# Altium schematic symbol library mb1367.SCHLIB: 77 symbols
Pins are listed as number, name and electrical type; pins without a type are passive.

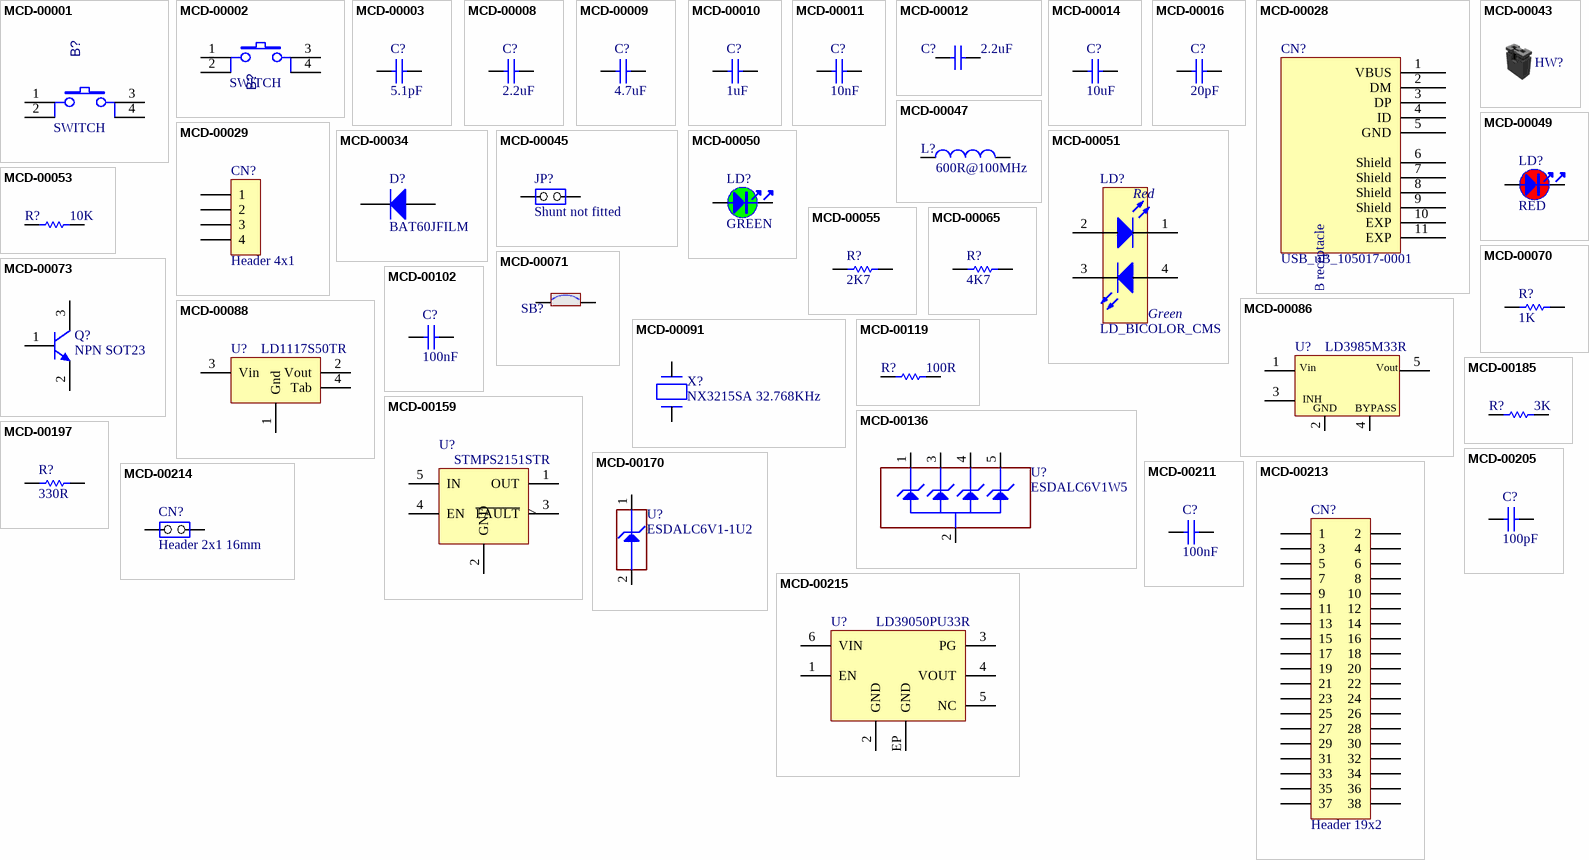
[diagram p0: symbols MCD-00001 to MCD-00215]

## MCD-00001
designator B?  value SWITCH
Non-Open Push-Button 0.1A 24V BLACK; Internal_Part_Number: MCD-00001; Manufacturer_Part_Number: TD-0341; Manufacturer: WEALTHMETAL; Part_Type: Misc; Provided_By: SUBCO; ECCN_US: n/a; ECCN_EU: n/a; ComponentLink1Description: Datasheet; Status: Released; ComponentLink1URL: http://tunmcdsvn.tun.st.com/Component_Datasheet_Library/Trunk/Misc/Wealthmetal_Tact-Switch_TD0341
footprint SWI_WEALTHMETAL_TD-0341_4P_BLACK
pins: 1, 2, 3, 4

## MCD-00002
designator B?  value SWITCH
Non-Open Push-Button 0.1A 24V; Internal_Part_Number: MCD-00002; Manufacturer_Part_Number: TD-0341; Manufacturer: WEALTHMETAL; Part_Type: Misc; Provided_By: SUBCO; ECCN_US: n/a; ECCN_EU: n/a; ComponentLink1Description: Datasheet; Status: Released; ComponentLink1URL: http://tunmcdsvn.tun.st.com/Component_Datasheet_Library/Trunk/Misc/Wealthmetal_Tact-Switch_TD0341
footprint SWI_WEALTHMETAL_TD-0341_4P_BLUE
pins: 1, 2, 3, 4

## MCD-00003
designator C?  value 5.1pF
Capacitor, MLCC, 5.1pF, 50V, NPO, +-0.25pF, 0402, T=0.5mm; Internal_Part_Number: MCD-00003; Manufacturer_Part_Number: CC0402CRNPO9BN5R1; Manufacturer: YAGEO; ECCN_US: EAR99; ECCN_EU: NEC; Provided_By: SUBCO; ComponentLink1Description: Datasheet; Status: Released; Part_Type: Capacitor; Package: C0402; ComponentLink1URL: http://tunmcdsvn.tun.st.com/Component_Datasheet_Library/Trunk/Capacitors/Yageo_Capacitor_NP0_16V-to-50V
footprint C0402
pins: 1, 2

## MCD-00008
designator C?  value 2.2uF
Capacitor, MLCC, 2.2uF, 16V, X7R, 10%, 1206, T=1,15mm; Internal_Part_Number: MCD-00008; Manufacturer_Part_Number: CC1206KKX7R7BB225; Manufacturer: YAGEO; Alternate_Manufacturer_Part_Number: C1206C225K4RAC; Alternate_Manufacturer: KEMET; Provided_By: Subcon; Initial_Board_Reference: MB1274; Status: Released; Package: C1206; ComponentLink1Description: Yageo_Capacitor_X7R-series.pdf; ECCN_US: n/a; ECCN_EU: n/a; Part_Type: Capacitor; ComponentLink1URL: http://tunmcdsvn.tun.st.com/Component_Datasheet_Library/Trunk/Capacitors/Yageo_Multilayer_Capacitor_X7R_series_100pF_to_22uF
footprint C1206_H1P15
pins: 1, 2

## MCD-00009
designator C?  value 4.7uF
Capacitor, MLCC, 4.7uF, 16V, X5R, 10%, 0603, T=0.8mm; Internal_Part_Number: MCD-00009; Manufacturer_Part_Number: CC0603KRX5R7BB475; Manufacturer: YAGEO; Provided_By: subcon; Initial_Board_Reference: MB1274; ComponentLink1Description: Yageo_Capacitor_X5R-series.pdf; ECCN_US: n/a; ECCN_EU: n/a; Status: Released; Part_Type: Capacitor; Package: C0603; ComponentLink1URL: http://tunmcdsvn.tun.st.com/Component_Datasheet_Library/Trunk/Capacitors/Yageo_Multilayer_capacitor_X5R_series_100pF_to_100uF
footprint C0603
pins: 1, 2

## MCD-00010
designator C?  value 1uF
Capacitor, MLCC, 1uF, 16V, X5R, 10%, 0603, T=0,8mm; Internal_Part_Number: MCD-00010; Manufacturer_Part_Number: CC0603KRX5R7BB105; Manufacturer: YAGEO; Provided_By: Subcon; Initial_Board_Reference: MB1274; Status: Released; Package: C0603; ComponentLink1Description: Yageo_Capacitor_X5R-series.pdf; ECCN_US: n/a; ECCN_EU: n/a; Part_Type: Capacitor; ComponentLink1URL: http://tunmcdsvn.tun.st.com/Component_Datasheet_Library/Trunk/Capacitors/Yageo_Multilayer_capacitor_X5R_series_100pF_to_100uF
footprint C0603
pins: 1, 2

## MCD-00011
designator C?  value 10nF
Capacitor, MLCC, 10nF, 16V, X7R, 10%, 0402, T=0.5mm; Internal_Part_Number: MCD-00011; Manufacturer_Part_Number: CC0402KRX7R7BB103; Manufacturer: YAGEO; Provided_By: Subcon; Initial_Board_Reference: MB1274; Status: Released; Part_Type: Capacitor; Package: C0402; ComponentLink1Description: Yageo_Capacitor_X7R-series.pdf; ECCN_US: n/a; ECCN_EU: n/a; ComponentLink1URL: http://tunmcdsvn.tun.st.com/Component_Datasheet_Library/Trunk/Capacitors/Yageo_Multilayer_Capacitor_X7R_series_100pF_to_22uF
footprint C0402
pins: 1, 2

## MCD-00012
designator C?  value 2.2uF
Capacitor, MLCC, 2.2uF, 10V, X5R, 10%, 0603, T=0,8mm; Internal_Part_Number: MCD-00012; Manufacturer_Part_Number: CC0603KRX5R6BB225; Manufacturer: YAGEO; Alternate_Manufacturer_Part_Number: C0603C225K8PACTU; Alternate_Manufacturer: KEMET; Provided_By: Subcon; Initial_Board_Reference: MB1274; Status: Released; Package: C0603; ComponentLink1Description: Yageo_Capacitor_X5R-series.pdf; ECCN_US: n/a; ECCN_EU: n/a; Part_Type: Capacitor; ComponentLink1URL: http://tunmcdsvn.tun.st.com/Component_Datasheet_Library/Trunk/Capacitors/Yageo_Multilayer_capacitor_X5R_series_100pF_to_100uF
footprint C0603
pins: 1, 2

## MCD-00014
designator C?  value 10uF
Capacitor, MLCC, 10uF, 25V, X5R, 10%, 0805, T=0,85mm; Internal_Part_Number: MCD-00014; Manufacturer_Part_Number: CC0805KRX5R8BB106; Manufacturer: YAGEO; ECCN_US: EAR99; ECCN_EU: NEC; Provided_By: SUBCO; ComponentLink1Description: Datasheet; Status: Released; Part_Type: Capacitor; Package: C0805; ComponentLink1URL: http://tunmcdsvn.tun.st.com/Component_Datasheet_Library/Trunk/Capacitors/Yageo_Multilayer_capacitor_X5R_series_100pF_to_100uF
footprint C0805
pins: 1, 2

## MCD-00016
designator C?  value 20pF
Capacitor, MLCC, 20pF, 50V, NPO, 5%, 0402, T=0,5mm; Internal_Part_Number: MCD-00016; Manufacturer_Part_Number: CC0402JRNPO9BN200; Manufacturer: YAGEO; Provided_By: Subcon; Initial_Board_Reference: MB1274; Status: Released; Package: C0402; ComponentLink1Description: Yageo_Capacitor_NP0_16V-to-50V.pdf; ECCN_US: n/a; ECCN_EU: n/a; Part_Type: Capacitor; ComponentLink1URL: http://tunmcdsvn.tun.st.com/Component_Datasheet_Library/Trunk/Capacitors/Yageo_Capacitor_NP0_16V-to-50V
footprint C0402
pins: 1, 2

## MCD-00028
designator CN?  value USB_uB_105017-0001
USB-MICRO-B, 0.65mm, RA, SMT, Bottom Mount,; Internal_Part_Number: MCD-00028; Manufacturer_Part_Number: 1050170001; Manufacturer: MOLEX; Part_Type: Connector; Provided_By: Subcon; Initial_Board_Reference: MB1274; Status: Released; ComponentLink1Description: Molex_Connector-USB-microB_105017-0001.pdf; ECCN_US: n/a; ECCN_EU: n/a; ComponentLink1URL: http://tunmcdsvn.tun.st.com/Component_Datasheet_Library/Trunk/Connectors/Molex_Connector-USB-microB_105017-0001
footprint CON_USBMICROB_MOLEX_105017-0001_H2P90
pins: 1 VBUS, 2 DM, 3 DP, 4 ID, 5 GND, 6 Shield, 7 Shield, 8 Shield, 9 Shield, 10 EXP, 11 EXP
text: USB_Micro-B receptacle

## MCD-00029
designator CN?  value Header 4x1
Header, 4x1, 2,54mm, VR, TH, Height 5.84mm/2.54mm; Internal_Part_Number: MCD-00029; Manufacturer_Part_Number: TSW-104-07-x-S; Manufacturer: SAMTEC; Part_Type: Connector; Provided_By: Subcon; Initial_Board_Reference: MB1274; Status: Released; ComponentLink1Description: Samtec_connector_TSW-HTSW-series.pdf; ECCN_US: n/a; ECCN_EU: n/a; ComponentLink1URL: http://tunmcdsvn.tun.st.com/Component_Datasheet_Library/Trunk/Connectors/Samtec_TSW-HTSW-series
footprint CON_SAMTEC_TSW-104-07-G-S
pins: 1, 2, 3, 4

## MCD-00034
designator D?  value BAT60JFILM
BAT60JFILM; Internal_Part_Number: MCD-00034; Manufacturer: STMICROELECTRONICS; Part_Type: Diode; ECCN_US: EAR99; ECCN_EU: NEC; Provided_By: Subcon; Initial_Board_Reference: MB1274; Manufacturer_Part_Number: BAT60JFILM; ComponentLink1Description: STM_Diode_BAT60JFILM-SOD323.pdf; Status: Released; ComponentLink1URL: http://tunmcdsvn.tun.st.com/Component_Datasheet_Library/Trunk/Diodes/STM_Diode_BAT60JFILM-SOD323
footprint DIO_SOD323
pins: 1 A, 2 K

## MCD-00043
designator HW?  (mechanical)
SHUNT 2.54mm BLACK; Internal_Part_Number: MCD-00043; Manufacturer_Part_Number: SNT-100-BK-G; Manufacturer: SAMTEC; Part_Type: Mechanical; Provided_By: Subcon; Initial_Board_Reference: MB1274; ECCN_US: n/a; ECCN_EU: n/a; ComponentLink1Description: Samtec_Shunt_Jumper_SNT100.pdf; Status: Released; ComponentLink1URL: http://tunmcdsvn.tun.st.com/Component_Datasheet_Library/Trunk/Connectors/Samtec_Shunt_Jumper_SNT100

## MCD-00045
designator JP?  value Shunt not fitted
Header, 2x1, 2,54mm, VR, TH, Height 5.84mm/2.54mm; Internal_Part_Number: MCD-00045; Part_Type: Connector; Manufacturer_Part_Number: TSW-102-07-x-S; Manufacturer: SAMTEC; Provided_By: Subcon; Initial_Board_Reference: MB1274; Status: Released; ComponentLink1Description: Samtec_connector_TSW-HTSW-series.pdf; ComponentLink1URL: http://tunmcdsvn.tun.st.com/Component_Datasheet_Library/Trunk/Connectors/Samtec_TSW-HTSW-series; ECCN_US: n/a; ECCN_EU: n/a
footprint CON_SAMTEC_TSW-102-07-G-S
pins: 1 COMMON, 2 NO

## MCD-00047
designator L?  value 600R@100MHz
SMD Chip ferrite bead, 600R@100MHz +/-25%, 350mA, 500mohm DC, 0603, T=0.8mm; Internal_Part_Number: MCD-00047; Part_Type: Inductor; Manufacturer_Part_Number: FCM1608KF-601T03; Manufacturer: TAI-TECH; Provided_By: SUBCO; Status: Released; ComponentLink1Description: Datasheet; ComponentLink1URL: http://tunmcdsvn.tun.st.com/Component_Datasheet_Library/Trunk/Inductors/TaiTech_Bead_FCM1608_series; ECCN_US: n/a; ECCN_EU: n/a
footprint L0603
pins: 1, 2

## MCD-00049
designator LD?  value RED
LED, Red, 0603; Internal_Part_Number: MCD-00049; Manufacturer_Part_Number: 19-213-R6C-AP1Q2B/3T; Manufacturer: EVERLIGHT; Part_Type: Display; ECCN_US: EAR99; ECCN_EU: NEC; Provided_By: Subcon; Initial_Board_Reference: MB1274; ComponentLink1Description: Everlight_SMD-LED-RED_19-213-R6C-AP1Q2B-3T-V3.doc.pdf; Status: Released; ComponentLink1URL: http://tunmcdsvn.tun.st.com/Component_Datasheet_Library/Trunk/display/Everlight_SMD-LED-RED_19-213-R6C-AP1Q2B-3T-V3.doc; Package: LED 0603
footprint LED_0603_RED
pins: 1, 2
2 alternate drawings of the same symbol

## MCD-00050
designator LD?  value GREEN
LED, Green, 0603; Internal_Part_Number: MCD-00050; Manufacturer_Part_Number: 19-213SYGC/S530-E2/TR8; Manufacturer: EVERLIGHT; Part_Type: Display; ECCN_US: EAR99; ECCN_EU: NEC; Provided_By: SUBCO; ComponentLink1Description: Datasheet; Status: Released; ComponentLink1URL: http://tunmcdsvn.tun.st.com/Component_Datasheet_Library/Trunk/Display/Everlight_SMD-LED-GREEN_19-213SYGC-S530-XX-TR8-v3.doc; Package: LED 0603
footprint LED_0603_GREEN
pins: 1, 2
2 alternate drawings of the same symbol

## MCD-00051
designator LD?  value LD_BICOLOR_CMS
LED Bicolor; Internal_Part_Number: MCD-00051; Part_Type: Display; Manufacturer_Part_Number: HSMF-A201-A00J1; Manufacturer: AVAGO TECHNOLOGIES; Alternate_Manufacturer_Part_Number: LE-RGW35280; Alternate_Manufacturer: EVERLUCK; ECCN_US: EAR99; ECCN_EU: NEC; Provided_By: Subcon; Initial_Board_Reference: MB1274; Status: Released; ComponentLink1Description: Avago_LED-SMC_HSMx-A2xx-02Feb2012.pdf; ComponentLink1URL: http://tunmcdsvn.tun.st.com/Component_Datasheet_Library/Trunk/display/Avago_LED-SMC_HSMx-A2xx-02Feb2012
footprint LED_BI-GR_HSMF-A201-A00J1
pins: 1 RED_cathode, 2 Red_anode, 3 YellowGreen_cathode, 4 YellowGreen_anode
text: Red; Green

## MCD-00053
designator R?  value 10K
Resistor,10K,0402,1%,1/16W; Internal_Part_Number: MCD-00053; Manufacturer_Part_Number: RC0402FR-0710KL; Manufacturer: YAGEO; Provided_By: subcon; Initial_Board_Reference: MB1274; Status: Released; ComponentLink1Description: Yageo_Resistor_RC0402-series.pdf; ECCN_US: n/a; ECCN_EU: n/a; Part_Type: Resistor; Package: R0402; ComponentLink1URL: http://tunmcdsvn.tun.st.com/Component_Datasheet_Library/Trunk/Resistors/Yageo_Resistor_RC0402-series
footprint R0402
pins: 1, 2

## MCD-00055
designator R?  value 2K7
Resistor,2K7,0402,1%,1/16W; Internal_Part_Number: MCD-00055; Manufacturer_Part_Number: RC0402FR-072K7L; Manufacturer: YAGEO; Provided_By: Subcon; Initial_Board_Reference: MB1274; Status: Released; ComponentLink1Description: Yageo_Resistor_RC0402-series.pdf; ECCN_US: n/a; ECCN_EU: n/a; Part_Type: Resistor; Package: R0402; ComponentLink1URL: http://tunmcdsvn.tun.st.com/Component_Datasheet_Library/Trunk/Resistors/Yageo_Resistor_RC0402-series
footprint R0402
pins: 1, 2

## MCD-00065
designator R?  value 4K7
Resistor,4K7,0402,1%,1/16W; Internal_Part_Number: MCD-00065; Manufacturer_Part_Number: RC0402FR-074K7L; Manufacturer: YAGEO; Alternate_Manufacturer_Part_Number: RT0402FRE074K7L; Provided_By: Subcon; Initial_Board_Reference: MB1274; Status: Released; ComponentLink1Description: Yageo_Resistor_RC0402-series.pdf; ECCN_US: n/a; ECCN_EU: n/a; Alternate_Manufacturer: YAGEO; Part_Type: Resistor; Package: R0402; ComponentLink1URL: http://tunmcdsvn.tun.st.com/Component_Datasheet_Library/Trunk/Resistors/Yageo_Resistor_RC0402-series
footprint R0402
pins: 1, 2

## MCD-00070
designator R?  value 1K
Resistor,1K,0603,1%,1/10W; Internal_Part_Number: MCD-00070; Manufacturer_Part_Number: RC0603FR-071KL; Manufacturer: YAGEO; Provided_By: Subcon; Initial_Board_Reference: MB1274; ComponentLink1Description: Yageo_Resistor_RC0603-series.pdf; ECCN_US: n/a; ECCN_EU: n/a; Status: Released; Part_Type: Resistor; Package: R0603; ComponentLink1URL: http://tunmcdsvn.tun.st.com/Component_Datasheet_Library/Trunk/Resistors/Yageo_Resistor_RC0603-series
footprint R0603
pins: 1, 2

## MCD-00071
designator SB?
Solder Bridge ON; Internal_Part_Number: MCD-00071; Part_Type: Mechanical; Manufacturer_Part_Number: RC0603JR-070RL; Manufacturer: YAGEO; Provided_By: SUBCO; ECCN_US: n/a; ECCN_EU: n/a; Status: Released; Package: SB0603; ComponentLink1Description: Datasheet; ComponentLink1URL: http://tunmcdsvn.tun.st.com/Component_Datasheet_Library/Trunk/Resistors/Yageo_Resistor_RC0603-series
footprint SOLDER-BRIDGE_R0603-0R
pins: 1, 2

## MCD-00073
designator Q?  value NPN SOT23
NPN Bipolar Transistor; Internal_Part_Number: MCD-00073; Part_Type: IC; Manufacturer_Part_Number: BSR14; Manufacturer: ON SEMICONDUCTOR; Alternate_Manufacturer_Part_Number: MMBT2222LT1G / MMBT2222ALT1G / MMBT2222ALT3G; ECCN_US: EAR99; ECCN_EU: NEC; Provided_By: SUBCO; Revision: *; Status: Released; ComponentLink1Description: Datasheet; ComponentLink1URL: http://tunmcdsvn.tun.st.com/Component_Datasheet_Library/Trunk/IC/NXP_Transistor_BSR14; Alternate_Manufacturer: ON SEMICONDUCTOR; Package: SOT23
footprint NPN_SOT23
pins: 1 B, 2 E, 3 C

## MCD-00086
designator U?  value LD3985M33R
Ultra low drop-low noise BiCMOS voltage, regulators low ESR capacitors compatible; Internal_Part_Number: MCD-00086; Manufacturer: STMICROELECTRONICS; Part_Type: IC; ECCN_US: EAR99; ECCN_EU: NEC; Provided_By: Subcon; Initial_Board_Reference: MB1274; Status: Released; Manufacturer_Part_Number: LD3985M33R; ComponentLink1Description: STM_LDO_LD3985.pdf; ComponentLink1URL: http://tunmcdsvn.tun.st.com/Component_Datasheet_Library/Trunk/IC/STM_LDO_LD3985
footprint REG_SOT23-5L
pins: 1 Vin, 2 GND, 3 CE, 4 BYPASS, 5 Vout
text: INH

## MCD-00088
designator U?  value LD1117S50TR
IC REG LDO 5V 0.8A SOT223; Internal_Part_Number: MCD-00088; Manufacturer: STMICROELECTRONICS; BMS_Part_Number: 9176133; ECCN_US: EAR99; ECCN_EU: NEC; Provided_By: SUBCO with ST control; Manufacturer_Part_Number: LD1117S50TR; ComponentLink1Description: Datasheet; Status: Released; Part_Type: IC; ComponentLink1URL: http://tunmcdsvn.tun.st.com/Component_Datasheet_Library/Trunk/IC/STM_LDO_LD1117; Package: SOT-223
footprint REG_SOT223-TAB
pins: 1 Gnd, 2 Vout, 3 Vin, 4 Tab

## MCD-00091
designator X?  value NX3215SA 32.768KHz
Crystal 32.768kHz, 6pF, +-20ppm, 50Kohms max, SMD; Internal_Part_Number: MCD-00091; Manufacturer_Part_Number: NX3215SA 32.768KHz EXS00A-MU00525; Manufacturer: NDK; Part_Type: Crystal_Osc; BMS_Part_Number: 9157034; ECCN_US: EAR99; ECCN_EU: NEC; Provided_By: SUBCO; ComponentLink1Description: Datasheet; Status: Released; ComponentLink1URL: http://tunmcdsvn.tun.st.com/Component_Datasheet_Library/Trunk/Crystal_Osc/NDK_Crystal-For-ST_NX3215SA 32.768KHz EXS00A-MU00525 (EXS10B-21238); Order_Code_Digikey: 644-1386
footprint CRY_NX3215SA_2P
pins: 1 X1, 2 X2

## MCD-00102
designator C?  value 100nF
Capacitor, MLCC, 100nF, 16V, X7R, 10%, 0402, T=0,5mm; Internal_Part_Number: MCD-00102; Manufacturer_Part_Number: CC0402KRX7R7BB104; Manufacturer: YAGEO; Provided_By: Subcon; Initial_Board_Reference: MB1262; Status: Released; Package: C0402; ComponentLink1Description: Yageo_Capacitor_X7R-series.pdf; ECCN_US: n/a; ECCN_EU: n/a; Part_Type: Capacitor; ComponentLink1URL: http://tunmcdsvn.tun.st.com/Component_Datasheet_Library/Trunk/Capacitors/Yageo_Multilayer_Capacitor_X7R_series_100pF_to_22uF
footprint C0402
pins: 1, 2

## MCD-00119
designator R?  value 100R
Resistor,100R,0402,1%,1/16W; Internal_Part_Number: MCD-00119; Manufacturer_Part_Number: RC0402FR-07100RL; Manufacturer: YAGEO; Provided_By: Subcon; Initial_Board_Reference: MB1262; Status: Released; Part_Type: Resistor; ComponentLink1Description: Yageo_Resistor_RC0402-series.pdf; ECCN_US: n/a; ECCN_EU: n/a; Package: R0402; ComponentLink1URL: http://tunmcdsvn.tun.st.com/Component_Datasheet_Library/Trunk/Resistors/Yageo_Resistor_RC0402-series
footprint R0402
pins: 1, 2

## MCD-00136
designator U?  value ESDALC6V1W5
Dual Transil array for ESD protection; Internal_Part_Number: MCD-00136; Part_Type: Diode; Manufacturer: STMICROELECTRONICS; ECCN_US: EAR99; ECCN_EU: NEC; Provided_By: Subcon; Initial_Board_Reference: MB1262; Status: Released; Manufacturer_Part_Number: ESDALC6V1W5; ComponentLink1Description: STM_ESD_ESDALC6V1W5.pdf; ComponentLink1URL: http://tunmcdsvn.tun.st.com/Component_Datasheet_Library/Trunk/Diodes/STM_ESD_ESDALC6V1W5
footprint ESD_SOT323-5L
pins: 1 IO1, 2 GND, 3 IO2, 4 IO3, 5 IO4

## MCD-00159
designator U?  value STMPS2151STR
500mA, Enhanced single channel power switches with active high enable pin; Internal_Part_Number: MCD-00159; Part_Type: IC; Manufacturer: STMICROELECTRONICS; Alternate_Manufacturer_Part_Number: TPS2051C; Alternate_Manufacturer: TEXAS INSTRUMENTS; ECCN_US: EAR99; ECCN_EU: NEC; Provided_By: Subcon; Initial_Board_Reference: MB1264; Status: Footprint available; Manufacturer_Part_Number: STMPS2151STR; ComponentLink1Description: STM_PWR-Switch_STMPS2151STR.pdf; ComponentLink1URL: http://tunmcdsvn.tun.st.com/Component_Datasheet_Library/Trunk/IC/STM_PWR-Switch_STMPS2151STR
footprint MOS_SOT23-5L
pins: 1 OUT, 2 GND, 3 ~{FAULT}, 4 EN, 5 IN

## MCD-00170
designator U?  value ESDALC6V1-1U2
ESD protection 6V1; Internal_Part_Number: MCD-00170; Part_Type: Diode; Manufacturer: STMICROELECTRONICS; ECCN_US: EAR99; ECCN_EU: NEC; Provided_By: Subcon; Initial_Board_Reference: MB1274; Status: Released; Manufacturer_Part_Number: ESDALC6V1-1U2; ComponentLink1Description: STM_ESD_ESDALC6V1-1U2.pdf; ComponentLink1URL: http://tunmcdsvn.tun.st.com/Component_Datasheet_Library/Trunk/Diodes/STM_ESD_ESDALC6V1-1U2
footprint ESD_ST0201
pins: 1 IO1, 2 GND

## MCD-00185
designator R?  value 3K
Resistor,3K,0402,1%,1/16W; Internal_Part_Number: MCD-00185; Manufacturer_Part_Number: RC0402FR-073KL; Manufacturer: YAGEO; Provided_By: Subcon; Status: Released; ComponentLink1Description: Yageo_Resistor_RC0402-series.pdf; ECCN_US: n/a; ECCN_EU: n/a; Part_Type: Resistor; Package: R0402; ComponentLink1URL: http://tunmcdsvn.tun.st.com/Component_Datasheet_Library/Trunk/Resistors/Yageo_Resistor_RC0402-series
footprint R0402
pins: 1, 2

## MCD-00197
designator R?  value 330R
Resistor,330R,0603,1%,1/10W; Internal_Part_Number: MCD-00197; Manufacturer_Part_Number: RC0603FR-07330RL; Manufacturer: YAGEO; Provided_By: Subcon; Status: Released; ComponentLink1Description: Yageo_Resistor_RC0603-series.pdf; ECCN_US: n/a; ECCN_EU: n/a; Part_Type: Resistor; Package: R0603; ComponentLink1URL: http://tunmcdsvn.tun.st.com/Component_Datasheet_Library/Trunk/Resistors/Yageo_Resistor_RC0603-series
footprint R0603
pins: 1, 2

## MCD-00205
designator C?  value 100pF
Capacitor, MLCC, 100pF, 50V, NPO, 5%, 0402, T=0,5mm; Internal_Part_Number: MCD-00205; Manufacturer_Part_Number: CC0402JRNPO9BN101; Manufacturer: YAGEO; Provided_By: Subcon; Status: Footprint available; Part_Type: Capacitor; Package: C0402; ComponentLink1Description: Yageo_Capacitor_NP0_16V-to-50V.pdf; ComponentLink1URL: http://tunmcdsvn.tun.st.com/Component_Datasheet_Library/Trunk/Capacitors/Yageo_Capacitor_NP0_16V-to-50V
footprint C0402
pins: 1, 2

## MCD-00211
designator C?  value 100nF
Capacitor, MLCC, 100nF, 16V, X7R, 10%, 0603, T=0,8mm; Internal_Part_Number: MCD-00211; Manufacturer_Part_Number: CC0603KRX7R7BB104; Manufacturer: YAGEO; ECCN_US: EAR99; ECCN_EU: NEC; Provided_By: SUBCO; Status: Released; Part_Type: Capacitor; Package: C0603; ComponentLink1Description: Datasheet; ComponentLink1URL: http://tunmcdsvn.tun.st.com/Component_Datasheet_Library/Trunk/Capacitors/Yageo_Multilayer_Capacitor_X7R_series_100pF_to_22uF
footprint C0603
pins: 1, 2

## MCD-00213
designator CN?  value Header 19x2
Header, 19x2, 2,54mm, VR, TH, Height 5.84mm/10.16mm; Internal_Part_Number: MCD-00213; Manufacturer_Part_Number: TSW-119-09-x-D; Manufacturer: SAMTEC; Part_Type: Connector; Provided_By: SUBCO; ECCN_US: n/a; ECCN_EU: n/a; ComponentLink1Description: Datasheet; Status: Released; ComponentLink1URL: http://tunmcdsvn.tun.st.com/Component_Datasheet_Library/Trunk/Connectors/Samtec_TSW-HTSW-series
footprint CON_SAMTEC_TSW-119-09-X-D
pins: 1, 2, 3, 4, 5, 6, 7, 8, 9, 10, 11, 12, 13, 14, 15, 16, 17, 18, 19, 20, 21, 22, 23, 24, 25, 26, 27, 28, 29, 30, 31, 32, 33, 34, 35, 36, 37, 38

## MCD-00214
designator CN?  value Header 2x1 16mm
Header, 2x1, 2,54mm, VR, TH, Height 5.84mm/10.16mm; Internal_Part_Number: MCD-00214; Part_Type: Connector; Manufacturer_Part_Number: TSW-102-09-x-S; Manufacturer: SAMTEC; Provided_By: Subcon; Initial_Board_Reference: MB1319; Status: Released; ComponentLink1Description: Samtec_connector_TSW-HTSW-series.pdf; ComponentLink1URL: http://tunmcdsvn.tun.st.com/Component_Datasheet_Library/Trunk/Connectors/Samtec_TSW-HTSW-series; ECCN_US: n/a; ECCN_EU: n/a
footprint CON_SAMTEC_TSW-102-09-X-S
pins: 1 COMMON, 2 NO

## MCD-00215
designator U?  value LD39050PU33R
Low quiescent current and low noise voltage regulators; Internal_Part_Number: MCD-00215; Manufacturer: STMICROELECTRONICS; Part_Type: IC; BMS_Part_Number: 9176126; ECCN_US: EAR99; ECCN_EU: NEC; Provided_By: SUBCO with ST control; Manufacturer_Part_Number: LD39050PU33R; Status: Released; ComponentLink1Description: Datasheet; ComponentLink1URL: http://tunmcdsvn.tun.st.com/Component_Datasheet_Library/Trunk/IC/STM_LDO_LD39050PU; Package: DFN6 3x3mm
footprint ICC_DFN6-EPAD_3X3_P095
pins: 1 EN, 2 GND, 3 PG, 4 VOUT, 5 NC, 6 VIN, EP GND

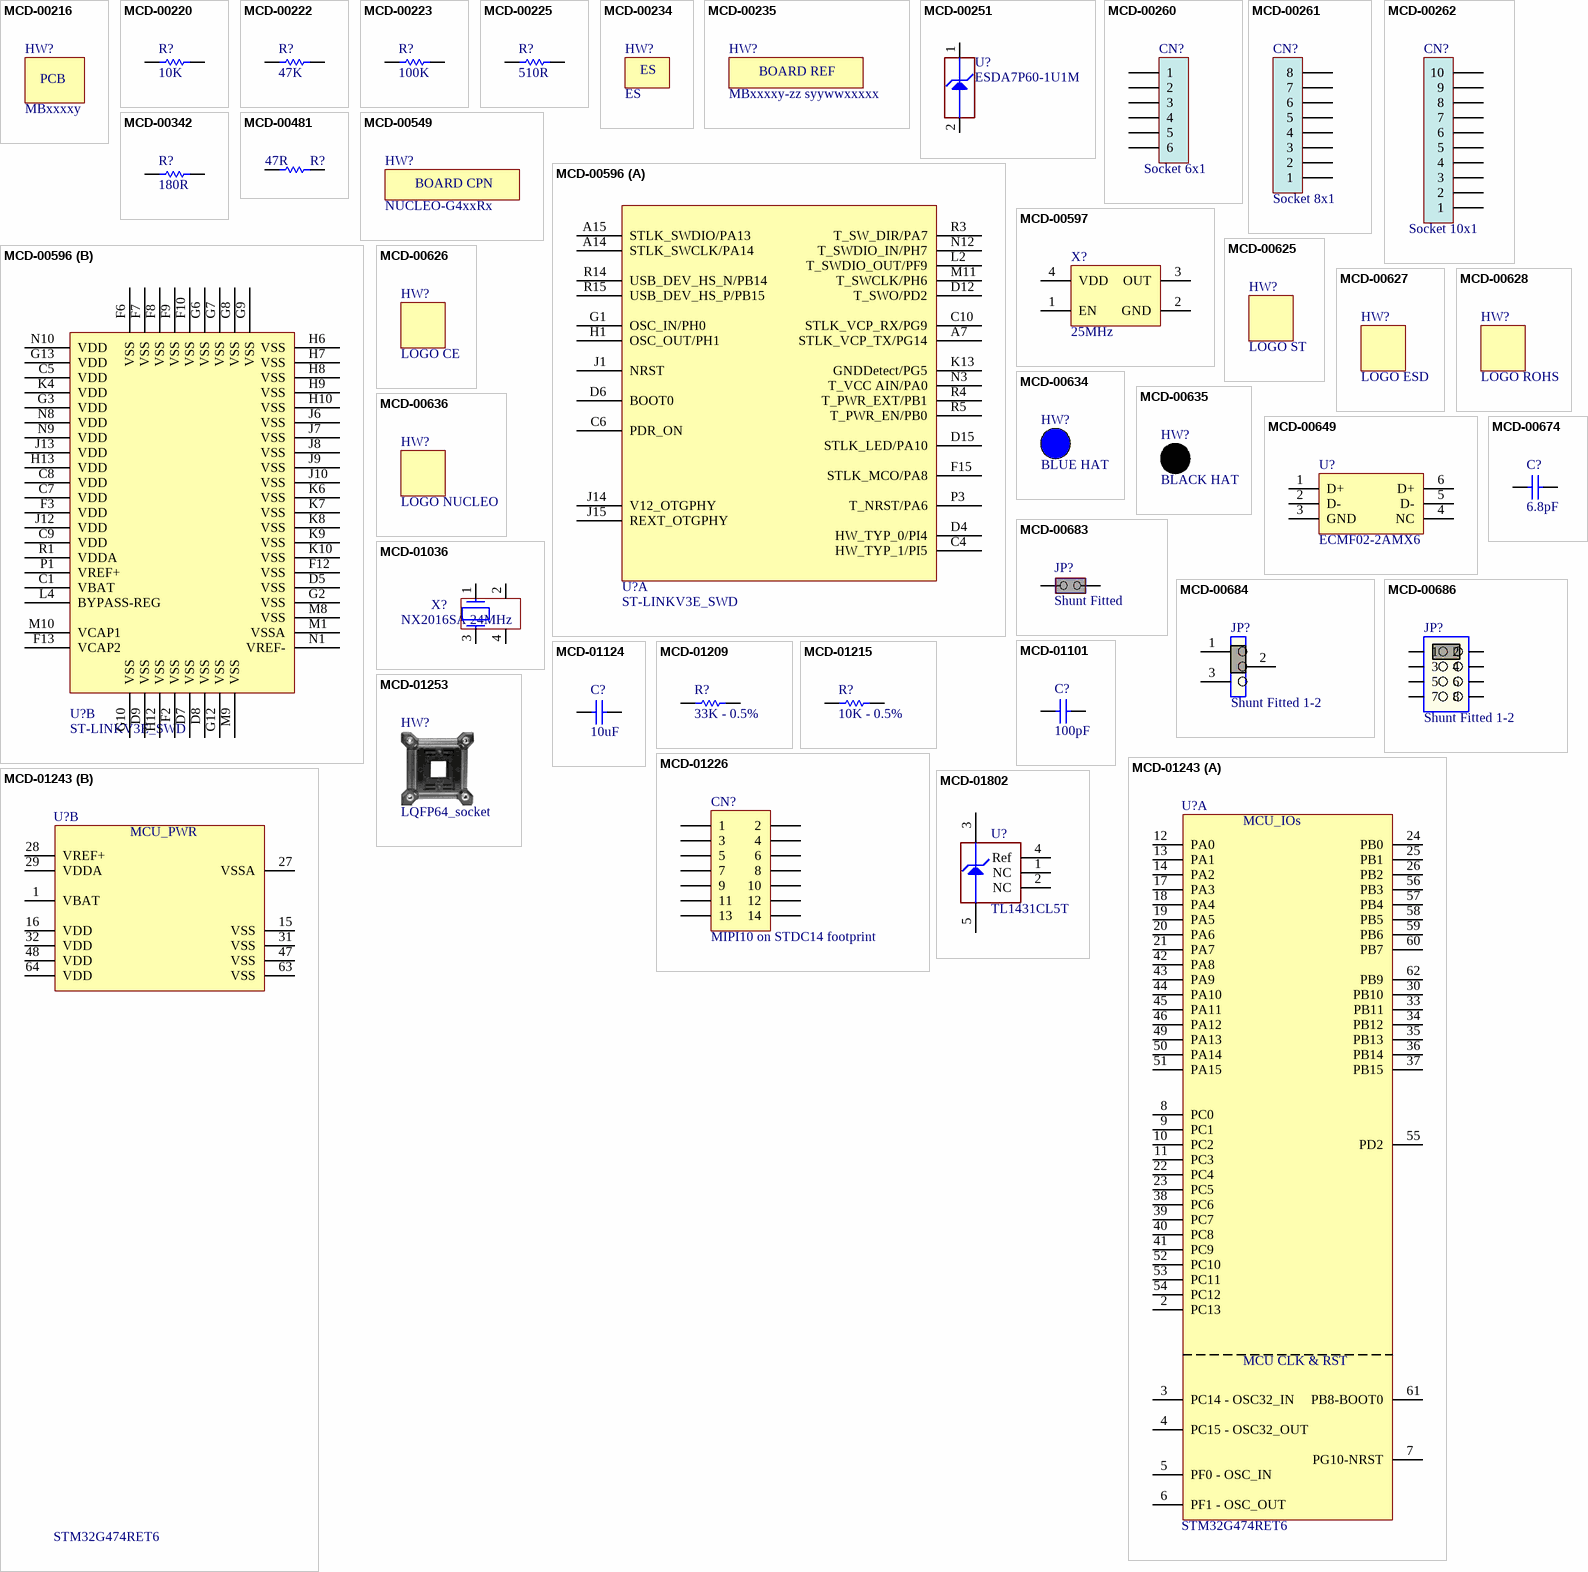
[diagram p1: symbols MCD-00216 to MCD-01802]

## MCD-00216
designator HW?  value MBxxxxy  (mechanical)
PCB, xxxx for PCB number, Y for PCB revision; Internal_Part_Number: MCD-00216; Part_Type: Mechanical; Provided_By: SUBCO; Status: Released; ECCN_US: n/a; ECCN_EU: n/a; Manufacturer_Part_Number: n/a; Manufacturer: n/a; ComponentLink1Description: Datasheet
text: PCB

## MCD-00220
designator R?  value 10K
Resistor,10K,0603,1%,1/10W; Internal_Part_Number: MCD-00220; Manufacturer_Part_Number: RC0603FR-0710KL; Manufacturer: YAGEO; Provided_By: Subcon; Initial_Board_Reference: MB1319; ECCN_US: n/a; ECCN_EU: n/a; ComponentLink1Description: Yageo_Resistor_RC0603-series.pdf; Status: Released; Part_Type: Resistor; Package: R0603; ComponentLink1URL: http://tunmcdsvn.tun.st.com/Component_Datasheet_Library/Trunk/Resistors/Yageo_Resistor_RC0603-series
footprint R0603
pins: 1, 2

## MCD-00222
designator R?  value 47K
Resistor,47K,0603,1%,1/10W; Internal_Part_Number: MCD-00222; Manufacturer_Part_Number: RC0603FR-0747KL; Manufacturer: YAGEO; ECCN_US: EAR99; ECCN_EU: NEC; Provided_By: SUBCO; Status: Released; Part_Type: Resistor; ComponentLink1Description: Datasheet; Package: R0603; ComponentLink1URL: http://tunmcdsvn.tun.st.com/Component_Datasheet_Library/Trunk/Resistors/Yageo_Resistor_RC0603-series
footprint R0603
pins: 1, 2

## MCD-00223
designator R?  value 100K
Resistor,100K,0603,1%,1/10W; Internal_Part_Number: MCD-00223; Manufacturer_Part_Number: RC0603FR-07100KL; Manufacturer: YAGEO; Provided_By: Subcon; Initial_Board_Reference: MB1319; ECCN_US: n/a; ECCN_EU: n/a; ComponentLink1Description: Yageo_Resistor_RC0603-series.pdf; Status: Released; Part_Type: Resistor; Package: R0603; ComponentLink1URL: http://tunmcdsvn.tun.st.com/Component_Datasheet_Library/Trunk/Resistors/Yageo_Resistor_RC0603-series
footprint R0603
pins: 1, 2

## MCD-00225
designator R?  value 510R
Resistor,510R,0603,1%,1/10W; Internal_Part_Number: MCD-00225; Manufacturer_Part_Number: RC0603FR-07510RL; Manufacturer: YAGEO; ECCN_US: EAR99; ECCN_EU: NEC; Provided_By: SUBCO; ComponentLink1Description: Datasheet; Status: Released; Part_Type: Resistor; Package: R0603; ComponentLink1URL: http://tunmcdsvn.tun.st.com/Component_Datasheet_Library/Trunk/Resistors/Yageo_Resistor_RC0603-series
footprint R0603
pins: 1, 2

## MCD-00234
designator HW?  value ES  (mechanical)
Sticker to mention ES sample; Internal_Part_Number: MCD-00234; Part_Type: Mechanical; Provided_By: SUBCO; Status: Released; ECCN_US: n/a; ECCN_EU: n/a; Manufacturer_Part_Number: n/a; Manufacturer: n/a; ComponentLink1Description: Datasheet

## MCD-00235
designator HW?  value MBxxxxy-zz syywwxxxxx  (mechanical)
Sticker to mention board reference + serial number; Internal_Part_Number: MCD-00235; Part_Type: Mechanical; Provided_By: SUBCO; ECCN_US: n/a; ECCN_EU: n/a; Status: Released; Manufacturer_Part_Number: n/a; Manufacturer: n/a; ComponentLink1Description: Datasheet; ComponentLink1URL: n/a
footprint STICKER_25X9
text: BOARD REF

## MCD-00251
designator U?  value ESDA7P60-1U1M
High power transient voltage suppressor, 7V breakdown; Internal_Part_Number: MCD-00251; Part_Type: IC; Manufacturer: STMICROELECTRONICS; ECCN_US: EAR99; ECCN_EU: NEC; Provided_By: Subcon; Initial_Board_Reference: MB1311; Status: Released; Manufacturer_Part_Number: ESDA7P60-1U1M; ComponentLink1Description: STM_ESD_ESDA7P60-1U1M.pdf; ComponentLink1URL: http://tunmcdsvn.tun.st.com/Component_Datasheet_Library/Trunk/Diodes/STM_ESD_ESDA7P60-1U1M
footprint ESD_QFN2_1P6X1_P125
pins: 1 IO1, 2 GND

## MCD-00260
designator CN?  value Socket 6x1
Socket, 6x1, 2.54mm, VR, TH, Height 8.51mm/10mm; Internal_Part_Number: MCD-00260; Manufacturer_Part_Number: SSW-106-03-x-S; Manufacturer: SAMTEC; Part_Type: Connector; Provided_By: SUBCO; ECCN_US: n/a; ECCN_EU: n/a; ComponentLink1Description: Datasheet; Status: Released; ComponentLink1URL: http://tunmcdsvn.tun.st.com/Component_Datasheet_Library/Trunk/Connectors/Samtec_SSW-SSQ-series
footprint CON_SAMTEC_SSW-106-03-X-S
pins: 1, 2, 3, 4, 5, 6

## MCD-00261
designator CN?  value Socket 8x1
Socket, 8x1, 2.54mm, VR, TH, Height 8.51mm/10mm; Internal_Part_Number: MCD-00261; Manufacturer_Part_Number: SSW-108-03-x-S; Manufacturer: SAMTEC; Part_Type: Connector; Provided_By: SUBCO; ECCN_US: n/a; ECCN_EU: n/a; ComponentLink1Description: Datasheet; Status: Released; ComponentLink1URL: http://tunmcdsvn.tun.st.com/Component_Datasheet_Library/Trunk/Connectors/Samtec_SSW-SSQ-series
footprint CON_SAMTEC_SSW-108-03-X-S
pins: 1, 2, 3, 4, 5, 6, 7, 8

## MCD-00262
designator CN?  value Socket 10x1
Socket, 10x1, 2.54mm, VR, TH, Height 8.51mm/10mm; Internal_Part_Number: MCD-00262; Manufacturer_Part_Number: SSW-110-03-x-S; Manufacturer: SAMTEC; Part_Type: Connector; Provided_By: SUBCO; ECCN_US: n/a; ECCN_EU: n/a; ComponentLink1Description: Datasheet; Status: Released; ComponentLink1URL: http://tunmcdsvn.tun.st.com/Component_Datasheet_Library/Trunk/Connectors/Samtec_SSW-SSQ-series
footprint CON_SAMTEC_SSW-110-03-X-S
pins: 1, 2, 3, 4, 5, 6, 7, 8, 9, 10

## MCD-00342
designator R?  value 180R
Resistor,180R,0603,1%,1/10W; Internal_Part_Number: MCD-00342; Manufacturer_Part_Number: RC0603FR-07180RL; Manufacturer: YAGEO; ECCN_US: EAR99; ECCN_EU: NEC; Provided_By: SUBCO; Status: Released; Part_Type: Resistor; Package: R0603; ComponentLink1Description: Datasheet; ComponentLink1URL: http://tunmcdsvn.tun.st.com/Component_Datasheet_Library/Trunk/Resistors/Yageo_Resistor_RC0603-series
footprint R0603
pins: 1, 2

## MCD-00481
designator R?  value 47R
Resistor,47R,0402,1%,1/16W; Internal_Part_Number: MCD-00481; Manufacturer_Part_Number: RC0402FR-0747RL; Manufacturer: YAGEO; Provided_By: SUBCO; ECCN_US: EAR99; ECCN_EU: NEC; Status: Released; Part_Type: Resistor; Package: R0402; ComponentLink1Description: Datasheet; ComponentLink1URL: http://tunmcdsvn.tun.st.com/Component_Datasheet_Library/Trunk/Resistors/Yageo_Resistor_RC0402-series
footprint R0402
pins: 1, 2

## MCD-00549
designator HW?  value NUCLEO-G4xxRx  (mechanical)
Product sticker to mention product CPN + product FG; Internal_Part_Number: MCD-00549; Part_Type: Mechanical; Provided_By: Subcon; Initial_Board_Reference: MB1319; ECCN_US: n/a; ECCN_EU: n/a; Status: Released
text: BOARD CPN

## MCD-00596
designator U?  value ST-LINKV3E_SWD
STM32F723IEK  (STM32F7) BGA176; Internal_Part_Number: MCD-00596; Part_Type: IC; Manufacturer_Part_Number: STM32F723IEK6; Manufacturer: STMICROELECTRONICS; BMS_Part_Number: 9175300; Provided_By: SUBCO with ST control; ECCN_US: 3A991A2; ECCN_EU: NEC; Status: Released; ComponentLink1Description: Datasheet; ComponentLink1URL: http://tunmcdsvn.tun.st.com/Component_Datasheet_Library/Trunk/IC/BGA176+25L_10x10x0.6_pitch0.65
footprint ICC_UFBGA201_176+25_10X10_P065
part A pins: A7 STLK_VCP_TX/PG14, A14 STLK_SWCLK/PA14, A15 STLK_SWDIO/PA13, C4 HW_TYP_1/PI5, C6 PDR_ON, C10 STLK_VCP_RX/PG9, D4 HW_TYP_0/PI4, D6 BOOT0, D12 T_SWO/PD2, D15 STLK_LED/PA10, F15 STLK_MCO/PA8, G1 OSC_IN/PH0, H1 OSC_OUT/PH1, J1 NRST, J14 V12_OTGPHY, J15 REXT_OTGPHY, K13 GNDDetect/PG5, L2 T_SWDIO_OUT/PF9, M11 T_SWCLK/PH6, N3 T_VCC AIN/PA0, N12 T_SWDIO_IN/PH7, P3 T_NRST/PA6, R3 T_SW_DIR/PA7, R4 T_PWR_EXT/PB1, R5 T_PWR_EN/PB0, R14 USB_DEV_HS_N/PB14, R15 USB_DEV_HS_P/PB15
part B pins: C1 VBAT, C5 VDD, C7 VDD, C8 VDD, C9 VDD, D5 VSS, D7 VSS, D8 VSS, D9 VSS, F2 VSS, F3 VDD, F6 VSS, F7 VSS, F8 VSS, F9 VSS, F10 VSS, F12 VSS, F13 VCAP2, G2 VSS, G3 VDD, G6 VSS, G7 VSS, G8 VSS, G9 VSS, G10 VSS, G12 VSS, G13 VDD, H6 VSS, H7 VSS, H8 VSS, H9 VSS, H10 VSS, H12 VSS, H13 VDD, J6 VSS, J7 VSS, J8 VSS, J9 VSS, J10 VSS, J12 VDD, J13 VDD, K4 VDD, K6 VSS, K7 VSS, K8 VSS, K9 VSS, K10 VSS, L4 BYPASS-REG, M1 VSSA, M8 VSS, M9 VSS, M10 VCAP1, N1 VREF-, N8 VDD, N9 VDD, N10 VDD, P1 VREF+, R1 VDDA

## MCD-00597
designator X?  value 25MHz
Oscillator 25.00Mhz, -+50PPM, 3.3V, Temp -55 to +125°C; Internal_Part_Number: MCD-00597; Manufacturer_Part_Number: NZ2520SB 25MHz END4869B; Manufacturer: NDK; Alternate_Manufacturer_Part_Number: KC2520B25.0000C10E00; Alternate_Manufacturer: AVX CORP/KYOCERA CORP; Part_Type: Crystal_Osc; Provided_By: STM; Initial_Board_Reference: MB1331; Status: Footprint available; ComponentLink1Description: NDK_OSCILLATOR_NZ2520SB.pdf; ComponentLink1URL: http://tunmcdsvn.tun.st.com/Component_Datasheet_Library/Trunk/Crystal_Osc/NDK_OSCILLATOR_NZ2520SB; Order_Code_Digikey: 478-4780-1-ND; ECCN_US: n/a; ECCN_EU: n/a
footprint OSC_NDK_NZ2520SB_4P
pins: 1 EN, 2 GND, 3 OUT, 4 VDD

## MCD-00625
designator HW?  value LOGO ST  (no BOM)
STMicroelectronics logo footprint for PCB; Internal_Part_Number: MCD-00625; Part_Type: Mechanical; Manufacturer_Part_Number: NONE; Status: Obsolete; ECCN_US: n/a; ECCN_EU: n/a; Provided_By: n/a; Manufacturer: NONE; ComponentLink1Description: Datasheet; ComponentLink1URL: http://na
footprint LOGO_ST

## MCD-00626
designator HW?  value LOGO CE  (no BOM)
CE logo footprint for PCB; Internal_Part_Number: MCD-00626; Part_Type: Mechanical; Manufacturer_Part_Number: NONE; Status: Obsolete; ECCN_US: n/a; ECCN_EU: n/a; Provided_By: n/a; Manufacturer: NONE; ComponentLink1Description: Datasheet
footprint LOGO_CE

## MCD-00627
designator HW?  value LOGO ESD  (no BOM)
Hand ESD logo footprint for PCB; Internal_Part_Number: MCD-00627; Part_Type: Mechanical; Manufacturer_Part_Number: NONE; Status: Obsolete; ECCN_US: n/a; ECCN_EU: n/a; Provided_By: n/a; Manufacturer: NONE; ComponentLink1Description: Datasheet; ComponentLink1URL: http://na
footprint LOGO_MAIN_1

## MCD-00628
designator HW?  value LOGO ROHS  (no BOM)
ROHS logo footprint for PCB; Internal_Part_Number: MCD-00628; Part_Type: Mechanical; Manufacturer_Part_Number: NONE; Status: Obsolete; ECCN_US: n/a; ECCN_EU: n/a; Provided_By: n/a; Manufacturer: NONE; ComponentLink1Description: Datasheet
footprint LOGO_ROHS

## MCD-00634
designator HW?  value BLUE HAT  (mechanical)
Blue Hat for switch TD0341X-G01-BLU; Internal_Part_Number: MCD-00634; Part_Type: Mechanical; Manufacturer_Part_Number: 988.16.09.3.00002_SH-517; Manufacturer: JIUBABA; Provided_By: SUBCO; Status: Released; ECCN_US: n/a; ECCN_EU: n/a; ComponentLink1Description: Datasheet; ComponentLink1URL: http://tunmcdsvn.tun.st.com/Component_Datasheet_Library/Trunk/Mechanical/Jiubaba_HAT_SH-517

## MCD-00635
designator HW?  value BLACK HAT  (mechanical)
Black Hat for switch TD0341X-G01-BLA; Internal_Part_Number: MCD-00635; Part_Type: Mechanical; Manufacturer_Part_Number: 988.16.09.3.00003_SH-517; Manufacturer: JIUBABA; Provided_By: SUBCO; Status: Released; ECCN_US: n/a; ECCN_EU: n/a; ComponentLink1Description: Datasheet; ComponentLink1URL: http://tunmcdsvn.tun.st.com/Component_Datasheet_Library/Trunk/Mechanical/Jiubaba_HAT_SH-517

## MCD-00636
designator HW?  value LOGO NUCLEO  (no BOM)
NUCLEO logo footprint for PCB; Internal_Part_Number: MCD-00636; Part_Type: Mechanical; Manufacturer_Part_Number: NONE; Status: Obsolete; ECCN_US: n/a; ECCN_EU: n/a; Provided_By: n/a; Manufacturer: NONE; ComponentLink1Description: Datasheet
footprint LOGO_NUCLEO

## MCD-00649
designator U?, comment value ECMF02-2AMX6  (hidden comment: ​)
Common mode filter with ESD protection for USB 2.0 interface; Internal_Part_Number: MCD-00649; Part_Type: Diode; Manufacturer: STMICROELECTRONICS; ECCN_US: EAR99; ECCN_EU: NEC; Provided_By: Subcon; Initial_Board_Reference: MB1248; Status: Footprint available; Manufacturer_Part_Number: ECMF02-2AMX6; ComponentLink1Description: STM_ESD_ECMF02-2AMX6.pdf; ComponentLink1URL: http://tunmcdsvn.tun.st.com/Component_Datasheet_Library/Trunk/Diodes/STM_ESD_ECMF02-2AMX6
footprint ESD_QFN-6L_1P7X1P5_P050
pins: 1 D+, 2 D-, 3 GND, 4 NC, 5 D-, 6 D+

## MCD-00674
designator C?  value 6.8pF
Capacitor, MLCC, 6.8pF, 50V, NPO, +-0.25pF, 0402, T=0.5mm; Internal_Part_Number: MCD-00674; Manufacturer_Part_Number: CC0402CRNPO9BN6R8; Manufacturer: YAGEO; Provided_By: SUBCO; Status: Released; Part_Type: Capacitor; Package: C0402; ComponentLink1Description: Datasheet; ComponentLink1URL: http://tunmcdsvn.tun.st.com/Component_Datasheet_Library/Trunk/Capacitors/Yageo_Capacitor_NP0_16V-to-50V; ECCN_US: N/A; ECCN_EU: N/A
footprint C0402
pins: 1, 2

## MCD-00683
designator JP?, comment Shunt Fitted
Header, 2x1, 2,54mm, VR, TH, Height 5.84mm/2.54mm - Shunt Fitted by default; Internal_Part_Number: MCD-00683; Part_Type: Connector; Manufacturer_Part_Number: TSW-102-07-x-S; Manufacturer: SAMTEC; Provided_By: Subcon; Initial_Board_Reference: MB1331; Value: Shunt Fitted; Status: Released; ComponentLink1Description: Samtec_connector_TSW-HTSW-series.pdf; ComponentLink1URL: http://tunmcdsvn.tun.st.com/Component_Datasheet_Library/Trunk/Connectors/Samtec_TSW-HTSW-series; ECCN_US: n/a; ECCN_EU: n/a
footprint CON_SAMTEC_TSW-102-07-G-S
pins: 1 COMMON, 2 NO

## MCD-00684
designator JP?  value Shunt Fitted 1-2
Header, 3x1, 2,54mm, VR, TH, Height 5.84mm/2.54mm - Shunt Fitted 1-2 by default; Internal_Part_Number: MCD-00684; Part_Type: Connector; Manufacturer_Part_Number: TSW-103-07-F-S; Manufacturer: SAMTEC; Provided_By: SUBCO; Status: Released; ComponentLink1Description: Datasheet; ComponentLink1URL: http://tunmcdsvn.tun.st.com/Component_Datasheet_Library/Trunk/Connectors/Samtec_TSW-HTSW-series; ECCN_US: n/a; ECCN_EU: n/a
footprint CON_SAMTEC_TSW-103-07-F-S
pins: 1, 2, 3

## MCD-00686
designator JP?  value Shunt Fitted 1-2
Header, 4x2, 2,54mm, VR, TH, Height 5.84mm/2.54mm - Shunt Fitted 1-2; Internal_Part_Number: MCD-00686; Part_Type: Connector; Manufacturer_Part_Number: TSW-104-07-x-D; Manufacturer: SAMTEC; Provided_By: SUBCO; Status: Released; ComponentLink1Description: Datasheet; ComponentLink1URL: http://tunmcdsvn.tun.st.com/Component_Datasheet_Library/Trunk/Connectors/Samtec_TSW-HTSW-series; ECCN_US: n/a; ECCN_EU: n/a
footprint CON_SAMTEC_TSW-104-07-X-D
pins: 1, 2, 3, 4, 5, 6, 7, 8

## MCD-01036
designator X?  value NX2016SA 24MHz
Crystal 24MHz, 6pF, +-20ppm, 80ohms max, SMD; Internal_Part_Number: MCD-01036; Part_Type: Crystal_Osc; Manufacturer_Part_Number: NX2016SA 24MHz EXS00A-CS10820; Manufacturer: NDK; BMS_Part_Number: 9157045; ECCN_US: EAR99; ECCN_EU: NEC; Provided_By: SUBCO; Status: Released; Package: (2016) 2.0 x 1.6 x 0.45 mm; ComponentLink1Description: Datasheet; ComponentLink1URL: http://tunmcdsvn.tun.st.com/Component_Datasheet_Library/Trunk/Crystal_Osc/NDK_NX2016SA 24MHz EXS00A-CS10820 (EXS10B-27366B); Order_Code_Digikey: 644-1365
footprint CRY_NX2016SA_4P
pins: 1, 2, 3, 4

## MCD-01101
designator C?  value 100pF
Capacitor,100pF,50V,X7R,10%,0603; Internal_Part_Number: MCD-01101; Manufacturer_Part_Number: 06035C101JAT4A; Manufacturer: AVX; ECCN_US: EAR99; ECCN_EU: NEC; Provided_By: SUBCO; Status: Checked; Part_Type: Capacitor; Package: C0603; ComponentLink1Description: Datasheet; ComponentLink1URL: http://tunmcdsvn.tun.st.com/Component_Datasheet_Library/Trunk/Capacitors/AVX_Capacitor_X7R-series/AVX_X7R-series.pdf; Alternate_Manufacturer_Part_Number: N/A; Alternate_Manufacturer: N/A; Order_Code_Digikey: 06035C101JAT4A-ND; Order_Code_Farnell: N/A; Order_Code_RS: N/A; BMS_Part_Number: N/A
footprint C0603
pins: 1, 2

## MCD-01124
designator C?  value 10uF
Capacitor, MLCC, 10uF, 10V, X5R, 10%, 0603, T=0.8mm; Internal_Part_Number: MCD-01124; Manufacturer_Part_Number: GRM188R61A106KAAL; Manufacturer: MURATA; ECCN_US: EAR99; ECCN_EU: NEC; Provided_By: SUBCO; Status: Released; Part_Type: Capacitor; Package: C0603; ComponentLink1Description: Datasheet; ComponentLink1URL: http://tunmcdsvn.tun.st.com/Component_Datasheet_Library/Trunk/Capacitors/Murata_Capacitor_GR_series
footprint C0603
pins: 1, 2

## MCD-01209
designator R?  value 33K - 0.5%
Resistor,33K,0603,0.5%,1/10W; Internal_Part_Number: MCD-01209; Manufacturer_Part_Number: RC0603DR-0733KL; Manufacturer: YAGEO; ECCN_US: EAR99; ECCN_EU: NEC; Provided_By: SUBCO; Status: Checked; Part_Type: Resistor; Package: R0603; ComponentLink1Description: Datasheet; ComponentLink1URL: http://tunmcdsvn.tun.st.com/Component_Datasheet_Library/Trunk/Resistors/Yageo_Resistor_RC0603-series/RC_Group_51_RoHS_L_7.pdf
footprint R0603
pins: 1, 2

## MCD-01215
designator R?  value 10K - 0.5%
resistor, 10K, 0603, 0.5%, 1/10W; Internal_Part_Number: MCD-01215; Manufacturer_Part_Number: RC0603DR-0710KL; Manufacturer: YAGEO; ECCN_US: EAR99; ECCN_EU: NEC; Provided_By: SUBCO; Status: Checked; Part_Type: Resistor; Package: R0603; ComponentLink1Description: Datasheet; ComponentLink1URL: http://tunmcdsvn.tun.st.com/Component_Datasheet_Library/Trunk/Resistors/Yageo_Resistor_RC0603-series/RC_Group_51_RoHS_L_7.pdf
footprint R0603
pins: 1, 2

## MCD-01226
designator CN?  value MIPI10 on STDC14 footprint
Header 5x2, 1.27mm, Dual row, Straight, Surface mount, vertical male connector. 3.05mm lead. Mates with FFSD connector. Footprint compatible with FTSH-107-01-L-DV,-K,-A,-P,-ES (STDC14 MEDIUM); Internal_Part_Number: MCD-01226; Manufacturer_Part_Number: FTSH-105-01-L-DV-K; Manufacturer: SAMTEC; Alternate_Manufacturer_Part_Number: P127B-2x05MGF-079-0A; Alternate_Manufacturer: JIUBABA; Provided_By: SUBCO; Status: Released; Part_Type: Connector; ComponentLink1Description: Datasheet; ComponentLink1URL: http://tunmcdsvn.tun.st.com/Component_Datasheet_Library/Trunk/Connectors/Samtec_FTSH_smt_series; ECCN_US: n/a; ECCN_EU: n/a
footprint CON_STDC14_Receiver_MEDIUM_WITH_MIPI10_3D
pins: 1, 2, 3, 4, 5, 6, 7, 8, 9, 10, 11, 12, 13, 14

## MCD-01243
designator U?  value STM32G474RET6
STM32G474, LQFP64 package,  3D IC footprint with 2D socket footprint.; Internal_Part_Number: MCD-01243; Manufacturer: STMICROELECTRONICS; BMS_Part_Number: 9175326; Provided_By: SUBCO with ST control; ECCN_US: 3A991A2; ECCN_EU: NEC; Status: Checked; Part_Type: IC; Manufacturer_Part_Number: STM32G474RET6; Package: LQFP64; ComponentLink1Description: Datasheet; ComponentLink1URL: http://tunmcdsvn.tun.st.com/Component_Datasheet_Library/Trunk/IC/STM_MCU_STM32G4xx
footprint ICC_LQFP64_10X10_P050_SOCKET_YAMAICHI_IC149-064-069-B5_NM
part A pins: 2 PC13, 3 PC14 - OSC32_IN, 4 PC15 - OSC32_OUT, 5 PF0 - OSC_IN, 6 PF1 - OSC_OUT, 7 PG10-NRST, 8 PC0, 9 PC1, 10 PC2, 11 PC3, 12 PA0, 13 PA1, 14 PA2, 17 PA3, 18 PA4, 19 PA5, 20 PA6, 21 PA7, 22 PC4, 23 PC5, 24 PB0, 25 PB1, 26 PB2, 30 PB10, 33 PB11, 34 PB12, 35 PB13, 36 PB14, 37 PB15, 38 PC6, 39 PC7, 40 PC8, 41 PC9, 42 PA8, 43 PA9, 44 PA10, 45 PA11, 46 PA12, 49 PA13, 50 PA14, 51 PA15, 52 PC10, 53 PC11, 54 PC12, 55 PD2, 56 PB3, 57 PB4, 58 PB5, 59 PB6, 60 PB7, 61 PB8-BOOT0, 62 PB9
part B pins: 1 VBAT, 15 VSS, 16 VDD, 27 VSSA, 28 VREF+, 29 VDDA, 31 VSS, 32 VDD, 47 VSS, 48 VDD, 63 VSS, 64 VDD
part A text: MCU_IOs; MCU CLK & RST
part B text: MCU_PWR

## MCD-01253
designator HW?, comment value LQFP64_socket  (hidden comment: SOCKET_LQFP64)  (mechanical)
Yamaichi socket for LQFP64, with positioning pins.; Internal_Part_Number: MCD-01253; Part_Type: Misc; Manufacturer_Part_Number: IC149-064-169-B5; Provided_By: SUBCO; Status: Checked; Manufacturer: YAMAICHI; ComponentLink1Description: Datasheet; ComponentLink1URL: http://tunmcdsvn.tun.st.com/Component_Datasheet_Library/Trunk/Misc/Yamaichi_LQFP_socket_IC149_64p_10x10_12789; ECCN_US: n/a; ECCN_EU: n/a

## MCD-01802
designator U?  value TL1431CL5T
Programmable voltage reference with 0.4% voltage precision; Internal_Part_Number: MCD-01802; Part_Type: IC; Manufacturer: STMICROELECTRONICS; BMS_Part_Number: 9176334; ECCN_US: EAR99; ECCN_EU: NEC; Provided_By: SUBCO with ST control; Status: Footprint available; Manufacturer_Part_Number: TL1431CL5T; Package: SOT23-5L; ComponentLink1Description: Datasheet; ComponentLink1URL: http://tunmcdsvn.tun.st.com/Component_Datasheet_Library/Trunk/IC/STM_voltage_reference_TL1431ACL5T/
footprint ICC_SOT23-5L_H1P45
pins: 1 NC, 2 NC, 3 Cathode, 4 Ref, 5 Anode